# EAGLE library part LIS3MDL (library UNKNOWN-2024)
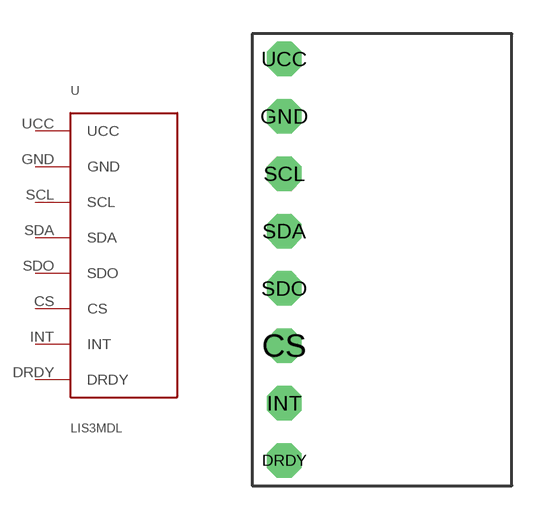
[diagram p0: symbol with the pads of LIS3MDL; footprint LIS3MDL]

Designator prefix -

## LIS3MDL  [LIS3MDL]
CS  CS
DRDY  DRDY
GND  GND
INT  INT
SCL  SCL
SDA  SDA
SDO  SDO
UCC  UCC

## Footprint LIS3MDL (pad centres in mm)
lsm
drill 1.016 octagon: CS -5.08,-3.81; DRDY -5.08,-8.89; GND -5.08,6.35; INT -5.08,-6.35; SCL -5.08,3.81; SDA -5.08,1.27; SDO -5.08,-1.27; UCC -5.08,8.89